# Altium footprint library XAL5050.PcbLib: 1 footprints
Each footprint in its own frame and in the unit in brackets; x right, y up, seen from the top. Pads: shape width x height; smd on the part's side, far side on the other; paste and mask are expansions set on the pad; w line width, h text height; cw(c..) or ccw(c..) is an arc to the next point about the centre after c.
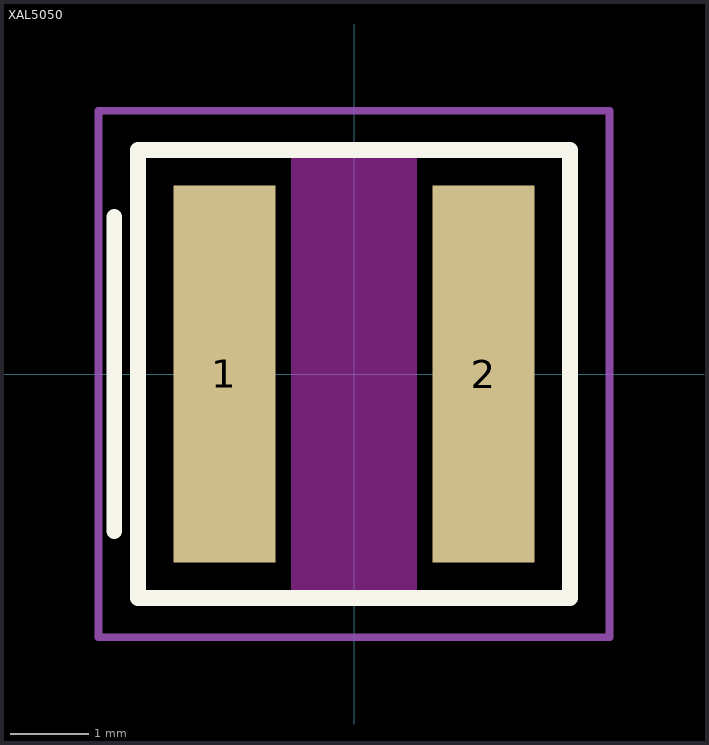
[diagram p0: the footprint, top view; thin cyan lines are the x and y axes]

## XAL5050 [mm]
pads (2):
  rect 1.3x4.8 smd: 1(-1.65,0) 2(1.65,0)
Top Layer keep-out:
  rectangle: -0.8,-2.85 0.8,2.85
Top Overlay:
  lines w0.2: -3.05,-2 -3.05,2 ; -2.75,-2.85 2.75,-2.85 2.75,2.85 -2.75,2.85 -2.75,-2.85
Top Courtyard:
  lines w0.1: -3.25,-3.35 -2.75,-3.35 3.25,-3.35 3.25,3.35 -3.25,3.35 -3.25,-3.35
3D body "Coilcraft-XAL5050.step": height 5.15, standoff 0.05, extent -2.74,-2.84 2.74,2.84